# Altium footprint library WR-TBL_Spring Clamp_7.50mm.PcbLib: 17 footprints (part 1 of 2)
Each footprint in its own frame and in the unit in brackets; x right, y up, seen from the top. Pads: shape width x height; smd on the part's side, far side on the other; paste and mask are expansions set on the pad; w line width, h text height; cw(c..) or ccw(c..) is an arc to the next point about the centre after c.
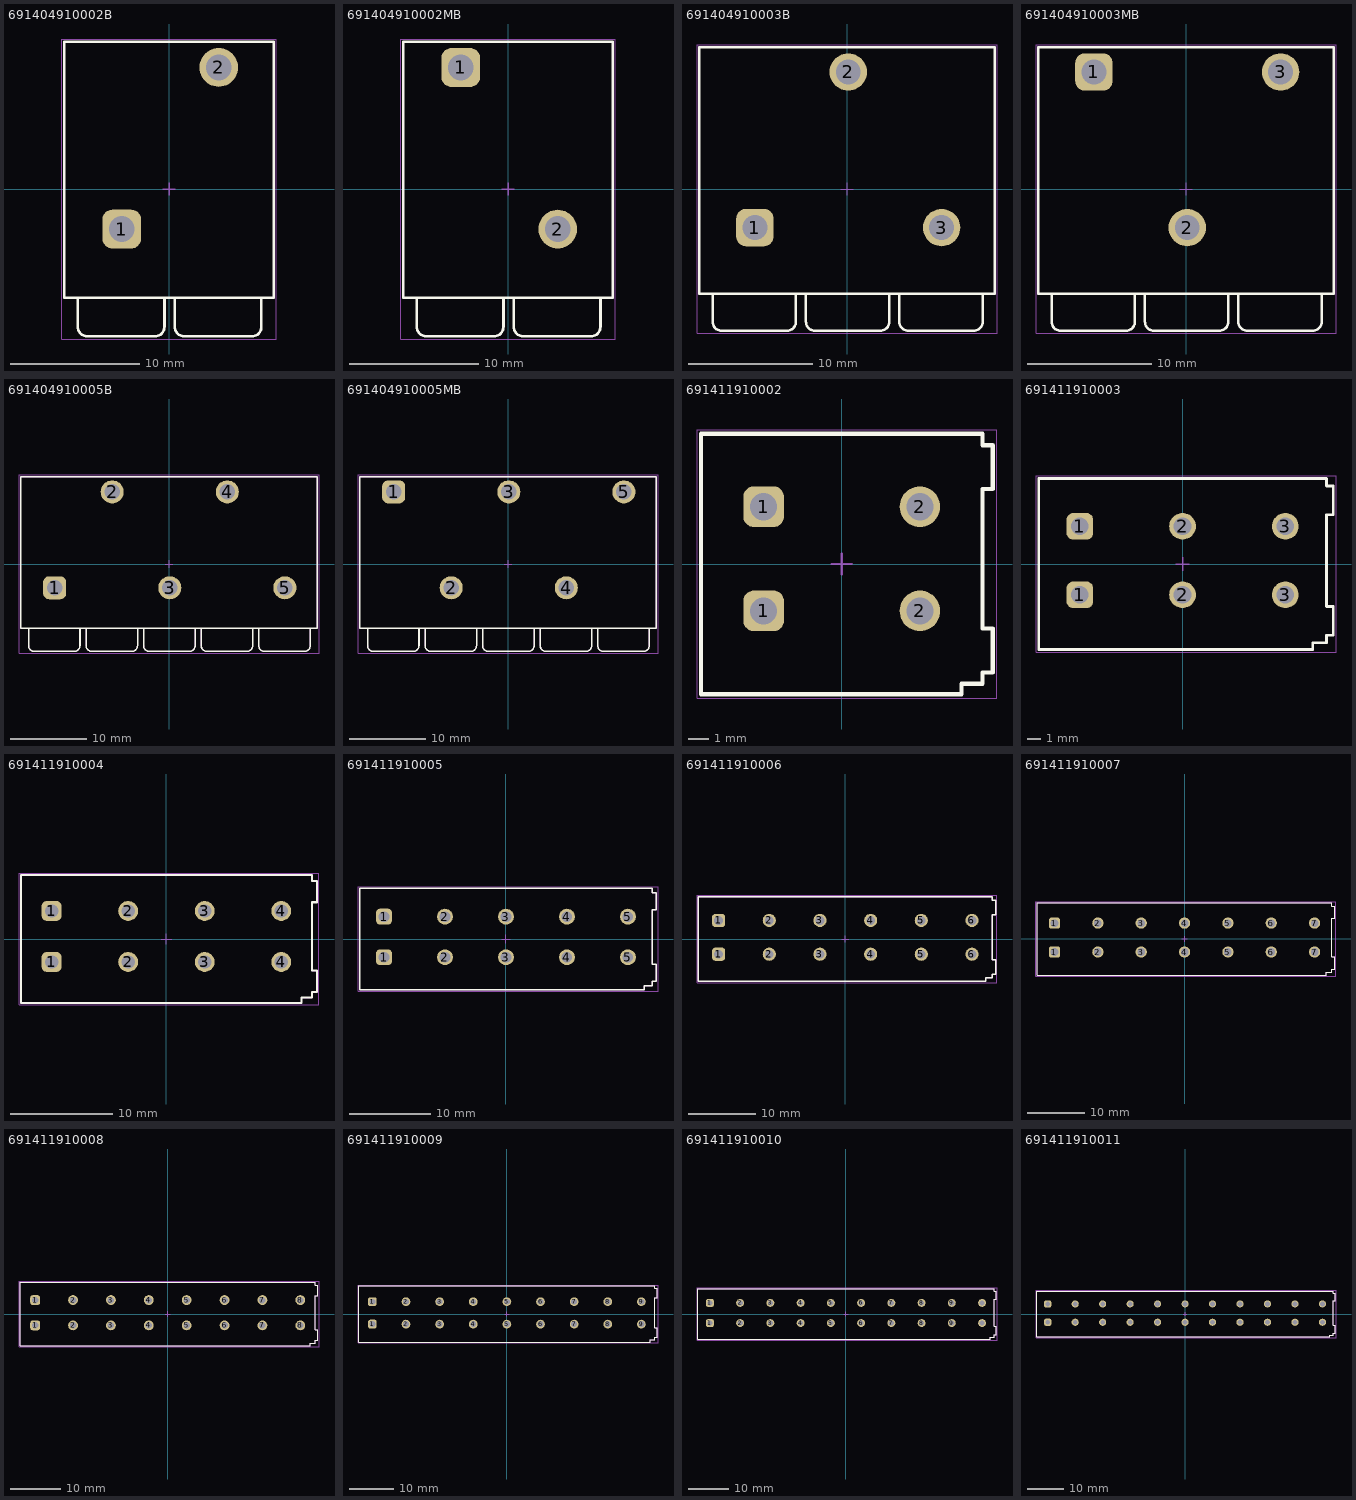
[diagram p0: the footprints below, top view; thin cyan lines are the x and y axes]

## 691404910002B [mm] "7.50 mm Screwless Clamp Power Connector, 2p"
height 24.1
pads (2):
  rrect50% 3x3 hole 2: 1(-3.65,-3.1)
  round 3 hole 2: 2(3.85,9.4)
Top Overlay:
  lines w0.2: -7.05,-8.4 -7.05,-10.65 ccw(c-6.3,-10.65) -6.3,-11.4 -1.05,-11.4 ; -1.1,-11.4 ccw(c-1.1,-10.65) -0.35,-10.65 -0.35,-8.4 ; 0.45,-8.4 0.45,-10.65 ccw(c1.2,-10.65) 1.2,-11.4 6.45,-11.4 ; 6.4,-11.4 ccw(c6.4,-10.65) 7.15,-10.65 7.15,-8.4 ; -8.1,-8.4 -8.1,11.4 8.1,11.4 8.1,-8.4 -8.1,-8.4
Top Assembly:
  lines w0.1: -7.05,-8.4 -7.05,-10.65 ccw(c-6.3,-10.65) -6.3,-11.4 -1.05,-11.4 ; -1.1,-11.4 ccw(c-1.1,-10.65) -0.35,-10.65 -0.35,-8.4 ; 0.45,-8.4 0.45,-10.65 ccw(c1.2,-10.65) 1.2,-11.4 6.45,-11.4 ; 6.4,-11.4 ccw(c6.4,-10.65) 7.15,-10.65 7.15,-8.4 ; -8.1,-8.4 8.1,-8.4 8.1,11.4 -8.1,11.4 -8.1,-8.4
Top Designator:
  text ".Designator" at -3.647,-0.357 h1
Top 3D Body:
  lines w0.1: -7.05,-8.4 -7.05,-10.65 ccw(c-6.3,-10.65) -6.3,-11.4 -1.05,-11.4 ; -1.1,-11.4 ccw(c-1.1,-10.65) -0.35,-10.65 -0.35,-8.4 ; 0.45,-8.4 0.45,-10.65 ccw(c1.2,-10.65) 1.2,-11.4 6.45,-11.4 ; 6.4,-11.4 ccw(c6.4,-10.65) 7.15,-10.65 7.15,-8.4 ; -8.1,-8.4 -8.1,11.4 8.1,11.4 8.1,-8.4 -8.1,-8.4
Top Courtyard:
  lines w0.05: -8.3,-11.6 -8.3,11.6 8.3,11.6 8.3,-11.6 -8.3,-11.6
Top Component Center:
  lines w0.1: -0.5,0 0.5,0 ; 0,-0.5 0,0.5
3D body "691404910002B.stp": height 24.16, standoff -3.54, extent -8.1,-11.395 8.1,11.4

## 691404910002MB [mm] "7.50 mm Screwless Clamp Power Connector, 2p"
height 24.1
pads (2):
  rrect50% 3x3 hole 2: 1(-3.65,9.4)
  round 3 hole 2: 2(3.85,-3.1)
Top Overlay:
  lines w0.2: -7.05,-8.4 -7.05,-10.65 ccw(c-6.3,-10.65) -6.3,-11.4 -1.05,-11.4 ; -1.1,-11.4 ccw(c-1.1,-10.65) -0.35,-10.65 -0.35,-8.4 ; 0.45,-8.4 0.45,-10.65 ccw(c1.2,-10.65) 1.2,-11.4 6.45,-11.4 ; 6.4,-11.4 ccw(c6.4,-10.65) 7.15,-10.65 7.15,-8.4 ; -8.1,-8.4 8.1,-8.4 8.1,11.4 -8.1,11.4 -8.1,-8.4
Top Assembly:
  lines w0.1: -7.05,-8.4 -7.05,-10.65 ccw(c-6.3,-10.65) -6.3,-11.4 -1.05,-11.4 ; -1.1,-11.4 ccw(c-1.1,-10.65) -0.35,-10.65 -0.35,-8.4 ; 0.45,-8.4 0.45,-10.65 ccw(c1.2,-10.65) 1.2,-11.4 6.45,-11.4 ; 6.4,-11.4 ccw(c6.4,-10.65) 7.15,-10.65 7.15,-8.4 ; -8.1,-8.4 -8.1,11.4 8.1,11.4 8.1,-8.4 -8.1,-8.4
Top Designator:
  text ".Designator" at -3.647,-0.357 h1
Top 3D Body:
  lines w0.1: -7.05,-8.4 -7.05,-10.65 ccw(c-6.3,-10.65) -6.3,-11.4 -1.05,-11.4 ; -1.1,-11.4 ccw(c-1.1,-10.65) -0.35,-10.65 -0.35,-8.4 ; 0.45,-8.4 0.45,-10.65 ccw(c1.2,-10.65) 1.2,-11.4 6.45,-11.4 ; 6.4,-11.4 ccw(c6.4,-10.65) 7.15,-10.65 7.15,-8.4 ; -8.1,-8.4 8.1,-8.4 8.1,11.4 -8.1,11.4 -8.1,-8.4
Top Courtyard:
  lines w0.05: -8.3,-11.6 8.3,-11.6 8.3,11.6 -8.3,11.6 -8.3,-11.6
Top Component Center:
  lines w0.1: -0.5,0 0.5,0 ; 0,-0.5 0,0.5
3D body "691404910002MB.stp": height 24.16, standoff -3.54, extent -8.1,-11.396 8.1,11.4

## 691404910003B [mm] "7.50 mm Screwless Clamp Power Connector, 3p"
height 24.1
pads (3):
  rrect50% 3x3 hole 2: 1(-7.4,-3.1)
  round 3 hole 2: 2(0.1,9.4) 3(7.6,-3.1)
Top Overlay:
  lines w0.2: -10.8,-8.4 -10.8,-10.65 ccw(c-10.05,-10.65) -10.05,-11.4 -4.8,-11.4 ; -4.85,-11.4 ccw(c-4.85,-10.65) -4.1,-10.65 -4.1,-8.4 ; -3.3,-8.4 -3.3,-10.65 ccw(c-2.55,-10.65) -2.55,-11.4 2.7,-11.4 ; 2.65,-11.4 ccw(c2.65,-10.65) 3.4,-10.65 3.4,-8.4 ; 4.2,-8.4 4.2,-10.65 ccw(c4.95,-10.65) 4.95,-11.4 10.2,-11.4 ; 10.15,-11.4 ccw(c10.15,-10.65) 10.9,-10.65 10.9,-8.4 ; -11.85,-8.4 11.85,-8.4 11.85,11.4 -11.85,11.4 -11.85,-8.4
Top Assembly:
  lines w0.1: -10.8,-8.4 -10.8,-10.65 ccw(c-10.05,-10.65) -10.05,-11.4 -4.8,-11.4 ; -4.85,-11.4 ccw(c-4.85,-10.65) -4.1,-10.65 -4.1,-8.4 ; -3.3,-8.4 -3.3,-10.65 ccw(c-2.55,-10.65) -2.55,-11.4 2.7,-11.4 ; 2.65,-11.4 ccw(c2.65,-10.65) 3.4,-10.65 3.4,-8.4 ; 4.2,-8.4 4.2,-10.65 ccw(c4.95,-10.65) 4.95,-11.4 10.2,-11.4 ; 10.15,-11.4 ccw(c10.15,-10.65) 10.9,-10.65 10.9,-8.4 ; -11.85,-8.4 -11.85,11.4 11.85,11.4 11.85,-8.4 -11.85,-8.4
Top Designator:
  text ".Designator" at -3.647,-0.357 h1
Top 3D Body:
  lines w0.1: -10.8,-8.4 -10.8,-10.65 ccw(c-10.05,-10.65) -10.05,-11.4 -4.8,-11.4 ; -4.85,-11.4 ccw(c-4.85,-10.65) -4.1,-10.65 -4.1,-8.4 ; -3.3,-8.4 -3.3,-10.65 ccw(c-2.55,-10.65) -2.55,-11.4 2.7,-11.4 ; 2.65,-11.4 ccw(c2.65,-10.65) 3.4,-10.65 3.4,-8.4 ; 4.2,-8.4 4.2,-10.65 ccw(c4.95,-10.65) 4.95,-11.4 10.2,-11.4 ; 10.15,-11.4 ccw(c10.15,-10.65) 10.9,-10.65 10.9,-8.4 ; -11.85,-8.4 11.85,-8.4 11.85,11.4 -11.85,11.4 -11.85,-8.4
Top Courtyard:
  lines w0.05: -12.05,-11.6 12.05,-11.6 12.05,11.6 -12.05,11.6 -12.05,-11.6
Top Component Center:
  lines w0.1: -0.5,0 0.5,0 ; 0,-0.5 0,0.5
3D body "691404910003B.stp": height 24.16, standoff -3.54, extent -11.85,-11.395 11.85,11.4

## 691404910003MB [mm] "7.50 mm Screwless Clamp Power Connector, 3p"
height 24.1
pads (3):
  rrect50% 3x3 hole 2: 1(-7.4,9.4)
  round 3 hole 2: 2(0.1,-3.1) 3(7.6,9.4)
Top Overlay:
  lines w0.2: -10.8,-8.4 -10.8,-10.65 ccw(c-10.05,-10.65) -10.05,-11.4 -4.8,-11.4 ; -4.85,-11.4 ccw(c-4.85,-10.65) -4.1,-10.65 -4.1,-8.4 ; -3.3,-8.4 -3.3,-10.65 ccw(c-2.55,-10.65) -2.55,-11.4 2.7,-11.4 ; 2.65,-11.4 ccw(c2.65,-10.65) 3.4,-10.65 3.4,-8.4 ; 4.2,-8.4 4.2,-10.65 ccw(c4.95,-10.65) 4.95,-11.4 10.2,-11.4 ; 10.15,-11.4 ccw(c10.15,-10.65) 10.9,-10.65 10.9,-8.4 ; -11.85,-8.4 -11.85,11.4 11.85,11.4 11.85,-8.4 -11.85,-8.4
Top Assembly:
  lines w0.1: -10.8,-8.4 -10.8,-10.65 ccw(c-10.05,-10.65) -10.05,-11.4 -4.8,-11.4 ; -4.85,-11.4 ccw(c-4.85,-10.65) -4.1,-10.65 -4.1,-8.4 ; -3.3,-8.4 -3.3,-10.65 ccw(c-2.55,-10.65) -2.55,-11.4 2.7,-11.4 ; 2.65,-11.4 ccw(c2.65,-10.65) 3.4,-10.65 3.4,-8.4 ; 4.2,-8.4 4.2,-10.65 ccw(c4.95,-10.65) 4.95,-11.4 10.2,-11.4 ; 10.15,-11.4 ccw(c10.15,-10.65) 10.9,-10.65 10.9,-8.4 ; -11.85,-8.4 11.85,-8.4 11.85,11.4 -11.85,11.4 -11.85,-8.4
Top Designator:
  text ".Designator" at -3.647,-0.357 h1
Top 3D Body:
  lines w0.1: -10.8,-8.4 -10.8,-10.65 ccw(c-10.05,-10.65) -10.05,-11.4 -4.8,-11.4 ; -4.85,-11.4 ccw(c-4.85,-10.65) -4.1,-10.65 -4.1,-8.4 ; -3.3,-8.4 -3.3,-10.65 ccw(c-2.55,-10.65) -2.55,-11.4 2.7,-11.4 ; 2.65,-11.4 ccw(c2.65,-10.65) 3.4,-10.65 3.4,-8.4 ; 4.2,-8.4 4.2,-10.65 ccw(c4.95,-10.65) 4.95,-11.4 10.2,-11.4 ; 10.15,-11.4 ccw(c10.15,-10.65) 10.9,-10.65 10.9,-8.4 ; -11.85,-8.4 -11.85,11.4 11.85,11.4 11.85,-8.4 -11.85,-8.4
Top Courtyard:
  lines w0.05: -12.05,-11.6 -12.05,11.6 12.05,11.6 12.05,-11.6 -12.05,-11.6
Top Component Center:
  lines w0.1: -0.5,0 0.5,0 ; 0,-0.5 0,0.5
3D body "691404910003MB.stp": height 24.16, standoff -3.54, extent -11.85,-11.396 11.85,11.4

## 691404910005B [mm] "7.50 mm Screwless Clamp Power Connector, 5p"
height 24.1
pads (5):
  rrect50% 3x3 hole 2: 1(-14.9,-3.1)
  round 3 hole 2: 2(-7.4,9.4) 3(0.1,-3.1) 4(7.6,9.4) 5(15.1,-3.1)
Top Overlay:
  lines w0.2: -18.3,-8.4 -18.3,-10.65 ccw(c-17.55,-10.65) -17.55,-11.4 -12.3,-11.4 ; -12.35,-11.4 ccw(c-12.35,-10.65) -11.6,-10.65 -11.6,-8.4 ; -10.8,-8.4 -10.8,-10.65 ccw(c-10.05,-10.65) -10.05,-11.4 -4.8,-11.4 ; -4.85,-11.4 ccw(c-4.85,-10.65) -4.1,-10.65 -4.1,-8.4 ; -3.3,-8.4 -3.3,-10.65 ccw(c-2.55,-10.65) -2.55,-11.4 2.7,-11.4 ; 2.65,-11.4 ccw(c2.65,-10.65) 3.4,-10.65 3.4,-8.4 ; 4.2,-8.4 4.2,-10.65 ccw(c4.95,-10.65) 4.95,-11.4 10.2,-11.4 ; 10.15,-11.4 ccw(c10.15,-10.65) 10.9,-10.65 10.9,-8.4 ; 11.7,-8.4 11.7,-10.65 ccw(c12.45,-10.65) 12.45,-11.4 17.7,-11.4 ; 17.65,-11.4 ccw(c17.65,-10.65) 18.4,-10.65 18.4,-8.4 ; -19.35,-8.4 -19.35,11.4 19.35,11.4 19.35,-8.4 -19.35,-8.4
Top Assembly:
  lines w0.1: -18.3,-8.4 -18.3,-10.65 ccw(c-17.55,-10.65) -17.55,-11.4 -12.3,-11.4 ; -12.35,-11.4 ccw(c-12.35,-10.65) -11.6,-10.65 -11.6,-8.4 ; -10.8,-8.4 -10.8,-10.65 ccw(c-10.05,-10.65) -10.05,-11.4 -4.8,-11.4 ; -4.85,-11.4 ccw(c-4.85,-10.65) -4.1,-10.65 -4.1,-8.4 ; -3.3,-8.4 -3.3,-10.65 ccw(c-2.55,-10.65) -2.55,-11.4 2.7,-11.4 ; 2.65,-11.4 ccw(c2.65,-10.65) 3.4,-10.65 3.4,-8.4 ; 4.2,-8.4 4.2,-10.65 ccw(c4.95,-10.65) 4.95,-11.4 10.2,-11.4 ; 10.15,-11.4 ccw(c10.15,-10.65) 10.9,-10.65 10.9,-8.4 ; 11.7,-8.4 11.7,-10.65 ccw(c12.45,-10.65) 12.45,-11.4 17.7,-11.4 ; 17.65,-11.4 ccw(c17.65,-10.65) 18.4,-10.65 18.4,-8.4 ; -19.35,-8.4 19.35,-8.4 19.35,11.4 -19.35,11.4 -19.35,-8.4
Top Designator:
  text ".Designator" at -3.647,-0.357 h1
Top 3D Body:
  lines w0.1: -18.3,-8.4 -18.3,-10.65 ccw(c-17.55,-10.65) -17.55,-11.4 -12.3,-11.4 ; -12.35,-11.4 ccw(c-12.35,-10.65) -11.6,-10.65 -11.6,-8.4 ; -10.8,-8.4 -10.8,-10.65 ccw(c-10.05,-10.65) -10.05,-11.4 -4.8,-11.4 ; -4.85,-11.4 ccw(c-4.85,-10.65) -4.1,-10.65 -4.1,-8.4 ; -3.3,-8.4 -3.3,-10.65 ccw(c-2.55,-10.65) -2.55,-11.4 2.7,-11.4 ; 2.65,-11.4 ccw(c2.65,-10.65) 3.4,-10.65 3.4,-8.4 ; 4.2,-8.4 4.2,-10.65 ccw(c4.95,-10.65) 4.95,-11.4 10.2,-11.4 ; 10.15,-11.4 ccw(c10.15,-10.65) 10.9,-10.65 10.9,-8.4 ; 11.7,-8.4 11.7,-10.65 ccw(c12.45,-10.65) 12.45,-11.4 17.7,-11.4 ; 17.65,-11.4 ccw(c17.65,-10.65) 18.4,-10.65 18.4,-8.4 ; -19.35,-8.4 -19.35,11.4 19.35,11.4 19.35,-8.4 -19.35,-8.4
Top Courtyard:
  lines w0.05: -19.55,-11.6 -19.55,11.6 19.55,11.6 19.55,-11.6 -19.55,-11.6
Top Component Center:
  lines w0.1: -0.5,0 0.5,0 ; 0,-0.5 0,0.5
3D body "691404910005B.stp": height 24.16, standoff -3.54, extent -19.35,-11.395 19.35,11.4

## 691404910005MB [mm] "7.50 mm Screwless Clamp Power Connector, 5p"
height 24.1
pads (5):
  rrect50% 3x3 hole 2: 1(-14.9,9.4)
  round 3 hole 2: 2(-7.4,-3.1) 3(0.1,9.4) 4(7.6,-3.1) 5(15.1,9.4)
Top Overlay:
  lines w0.2: -18.3,-8.4 -18.3,-10.65 ccw(c-17.55,-10.65) -17.55,-11.4 -12.3,-11.4 ; -12.35,-11.4 ccw(c-12.35,-10.65) -11.6,-10.65 -11.6,-8.4 ; -10.8,-8.4 -10.8,-10.65 ccw(c-10.05,-10.65) -10.05,-11.4 -4.8,-11.4 ; -4.85,-11.4 ccw(c-4.85,-10.65) -4.1,-10.65 -4.1,-8.4 ; -3.3,-8.4 -3.3,-10.65 ccw(c-2.55,-10.65) -2.55,-11.4 2.7,-11.4 ; 2.65,-11.4 ccw(c2.65,-10.65) 3.4,-10.65 3.4,-8.4 ; 4.2,-8.4 4.2,-10.65 ccw(c4.95,-10.65) 4.95,-11.4 10.2,-11.4 ; 10.15,-11.4 ccw(c10.15,-10.65) 10.9,-10.65 10.9,-8.4 ; 11.7,-8.4 11.7,-10.65 ccw(c12.45,-10.65) 12.45,-11.4 17.7,-11.4 ; 17.65,-11.4 ccw(c17.65,-10.65) 18.4,-10.65 18.4,-8.4 ; -19.35,-8.4 19.35,-8.4 19.35,11.4 -19.35,11.4 -19.35,-8.4
Top Assembly:
  lines w0.1: -18.3,-8.4 -18.3,-10.65 ccw(c-17.55,-10.65) -17.55,-11.4 -12.3,-11.4 ; -12.35,-11.4 ccw(c-12.35,-10.65) -11.6,-10.65 -11.6,-8.4 ; -10.8,-8.4 -10.8,-10.65 ccw(c-10.05,-10.65) -10.05,-11.4 -4.8,-11.4 ; -4.85,-11.4 ccw(c-4.85,-10.65) -4.1,-10.65 -4.1,-8.4 ; -3.3,-8.4 -3.3,-10.65 ccw(c-2.55,-10.65) -2.55,-11.4 2.7,-11.4 ; 2.65,-11.4 ccw(c2.65,-10.65) 3.4,-10.65 3.4,-8.4 ; 4.2,-8.4 4.2,-10.65 ccw(c4.95,-10.65) 4.95,-11.4 10.2,-11.4 ; 10.15,-11.4 ccw(c10.15,-10.65) 10.9,-10.65 10.9,-8.4 ; 11.7,-8.4 11.7,-10.65 ccw(c12.45,-10.65) 12.45,-11.4 17.7,-11.4 ; 17.65,-11.4 ccw(c17.65,-10.65) 18.4,-10.65 18.4,-8.4 ; -19.35,-8.4 -19.35,11.4 19.35,11.4 19.35,-8.4 -19.35,-8.4
Top Designator:
  text ".Designator" at -3.647,-0.357 h1
Top 3D Body:
  lines w0.1: -18.3,-8.4 -18.3,-10.65 ccw(c-17.55,-10.65) -17.55,-11.4 -12.3,-11.4 ; -12.35,-11.4 ccw(c-12.35,-10.65) -11.6,-10.65 -11.6,-8.4 ; -10.8,-8.4 -10.8,-10.65 ccw(c-10.05,-10.65) -10.05,-11.4 -4.8,-11.4 ; -4.85,-11.4 ccw(c-4.85,-10.65) -4.1,-10.65 -4.1,-8.4 ; -3.3,-8.4 -3.3,-10.65 ccw(c-2.55,-10.65) -2.55,-11.4 2.7,-11.4 ; 2.65,-11.4 ccw(c2.65,-10.65) 3.4,-10.65 3.4,-8.4 ; 4.2,-8.4 4.2,-10.65 ccw(c4.95,-10.65) 4.95,-11.4 10.2,-11.4 ; 10.15,-11.4 ccw(c10.15,-10.65) 10.9,-10.65 10.9,-8.4 ; 11.7,-8.4 11.7,-10.65 ccw(c12.45,-10.65) 12.45,-11.4 17.7,-11.4 ; 17.65,-11.4 ccw(c17.65,-10.65) 18.4,-10.65 18.4,-8.4 ; -19.35,-8.4 19.35,-8.4 19.35,11.4 -19.35,11.4 -19.35,-8.4
Top Courtyard:
  lines w0.05: -19.55,-11.6 19.55,-11.6 19.55,11.6 -19.55,11.6 -19.55,-11.6
Top Component Center:
  lines w0.1: -0.5,0 0.5,0 ; 0,-0.5 0,0.5
3D body "691404910005MB.stp": height 24.16, standoff -3.54, extent -19.35,-11.396 19.35,11.4

## 691411910002 [mm] "7.50 mm Screwless Horizontal Entry, 2p"
height 13.9
pads (4):
  rrect50% 1.95x1.95 hole 1.3: 1(-3.75,-2.25) 1(-3.75,2.75)
  round 1.95 hole 1.3: 2(3.75,-2.25) 2(3.75,2.75)
Top Overlay:
  lines w0.2: -6.75,-6.25 5.75,-6.25 5.75,-5.75 6.75,-5.75 6.75,-5.2 7.25,-5.2 7.25,-3.1 6.75,-3.1 6.75,3.6 7.25,3.6 7.25,5.7 6.75,5.7 6.75,6.25 -6.75,6.25 -6.75,-6.25
Top Assembly:
  lines w0.1: -6.75,-6.25 -6.75,6.25 6.75,6.25 6.75,5.7 7.25,5.7 7.25,3.6 6.75,3.6 6.75,-3.1 7.25,-3.1 7.25,-5.2 6.75,-5.2 6.75,-5.75 5.75,-5.75 5.75,-6.25 -6.75,-6.25
Top Designator:
  text ".Designator" at -3.647,-0.357 h1
Top 3D Body:
  lines w0.1: -6.75,-6.25 5.75,-6.25 5.75,-5.75 6.75,-5.75 6.75,-5.2 7.25,-5.2 7.25,-3.1 6.75,-3.1 6.75,3.6 7.25,3.6 7.25,5.7 6.75,5.7 6.75,6.25 -6.75,6.25 -6.75,-6.25
Top Courtyard:
  lines w0.05: -6.95,-6.45 7.45,-6.45 7.45,6.45 -6.95,6.45 -6.95,-6.45
Top Component Center:
  lines w0.1: -0.5,0 0.5,0 ; 0,-0.5 0,0.5
3D body "691411910002.stp": height 13.95, standoff -3.55, extent -6.75,-6.25 7.25,6.25

## 691411910003 [mm] "7.50 mm Screwless Horizontal Entry, 3p"
height 13.9
pads (6):
  rrect50% 1.95x1.95 hole 1.3: 1(-7.5,-2.25) 1(-7.5,2.75)
  round 1.95 hole 1.3: 2(0,-2.25) 2(0,2.75) 3(7.5,-2.25) 3(7.5,2.75)
Top Overlay:
  lines w0.2: -10.5,-6.25 -10.5,6.25 10.5,6.25 10.5,5.7 11,5.7 11,3.6 10.5,3.6 10.5,-3.1 11,-3.1 11,-5.2 10.5,-5.2 10.5,-5.75 9.5,-5.75 9.5,-6.25 -10.5,-6.25
Top Assembly:
  lines w0.1: -10.5,-6.25 9.5,-6.25 9.5,-5.75 10.5,-5.75 10.5,-5.2 11,-5.2 11,-3.1 10.5,-3.1 10.5,3.6 11,3.6 11,5.7 10.5,5.7 10.5,6.25 -10.5,6.25 -10.5,-6.25
Top Designator:
  text ".Designator" at -3.647,-0.357 h1
Top 3D Body:
  lines w0.1: -10.5,-6.25 -10.5,6.25 10.5,6.25 10.5,5.7 11,5.7 11,3.6 10.5,3.6 10.5,-3.1 11,-3.1 11,-5.2 10.5,-5.2 10.5,-5.75 9.5,-5.75 9.5,-6.25 -10.5,-6.25
Top Courtyard:
  lines w0.05: -10.7,-6.45 -10.7,6.45 11.2,6.45 11.2,-6.45 -10.7,-6.45
Top Component Center:
  lines w0.1: -0.5,0 0.5,0 ; 0,-0.5 0,0.5
3D body "691411910003.stp": height 13.95, standoff -3.55, extent -10.5,-6.25 11,6.25

## 691411910004 [mm] "7.50 mm Screwless Horizontal Entry, 4p"
height 13.9
pads (8):
  rrect50% 1.95x1.95 hole 1.3: 1(-11.25,-2.25) 1(-11.25,2.75)
  round 1.95 hole 1.3: 2(-3.75,-2.25) 2(-3.75,2.75) 3(3.75,-2.25) 3(3.75,2.75) 4(11.25,-2.25) 4(11.25,2.75)
Top Overlay:
  lines w0.2: -14.25,-6.25 13.25,-6.25 13.25,-5.75 14.25,-5.75 14.25,-5.2 14.75,-5.2 14.75,-3.1 14.25,-3.1 14.25,3.6 14.75,3.6 14.75,5.7 14.25,5.7 14.25,6.25 -14.25,6.25 -14.25,-6.25
Top Assembly:
  lines w0.1: -14.25,-6.25 -14.25,6.25 14.25,6.25 14.25,5.7 14.75,5.7 14.75,3.6 14.25,3.6 14.25,-3.1 14.75,-3.1 14.75,-5.2 14.25,-5.2 14.25,-5.75 13.25,-5.75 13.25,-6.25 -14.25,-6.25
Top Designator:
  text ".Designator" at -3.647,-0.357 h1
Top 3D Body:
  lines w0.1: -14.25,-6.25 13.25,-6.25 13.25,-5.75 14.25,-5.75 14.25,-5.2 14.75,-5.2 14.75,-3.1 14.25,-3.1 14.25,3.6 14.75,3.6 14.75,5.7 14.25,5.7 14.25,6.25 -14.25,6.25 -14.25,-6.25
Top Courtyard:
  lines w0.05: -14.45,-6.45 14.95,-6.45 14.95,6.45 -14.45,6.45 -14.45,-6.45
Top Component Center:
  lines w0.1: -0.5,0 0.5,0 ; 0,-0.5 0,0.5
3D body "691411910004.stp": height 13.95, standoff -3.55, extent -14.25,-6.25 14.75,6.25

## 691411910005 [mm] "7.50 mm Screwless Horizontal Entry, 5p"
height 13.9
pads (10):
  rrect50% 1.95x1.95 hole 1.3: 1(-15,-2.25) 1(-15,2.75)
  round 1.95 hole 1.3: 2(-7.5,-2.25) 2(-7.5,2.75) 3(0,-2.25) 3(0,2.75) 4(7.5,-2.25) 4(7.5,2.75) 5(15,-2.25) 5(15,2.75)
Top Overlay:
  lines w0.2: -18,-6.25 -18,6.25 18,6.25 18,5.7 18.5,5.7 18.5,3.6 18,3.6 18,-3.1 18.5,-3.1 18.5,-5.2 18,-5.2 18,-5.75 17,-5.75 17,-6.25 -18,-6.25
Top Assembly:
  lines w0.1: -18,-6.25 17,-6.25 17,-5.75 18,-5.75 18,-5.2 18.5,-5.2 18.5,-3.1 18,-3.1 18,3.6 18.5,3.6 18.5,5.7 18,5.7 18,6.25 -18,6.25 -18,-6.25
Top Designator:
  text ".Designator" at -3.647,-0.357 h1
Top 3D Body:
  lines w0.1: -18,-6.25 -18,6.25 18,6.25 18,5.7 18.5,5.7 18.5,3.6 18,3.6 18,-3.1 18.5,-3.1 18.5,-5.2 18,-5.2 18,-5.75 17,-5.75 17,-6.25 -18,-6.25
Top Courtyard:
  lines w0.05: -18.2,-6.45 -18.2,6.45 18.7,6.45 18.7,-6.45 -18.2,-6.45
Top Component Center:
  lines w0.1: -0.5,0 0.5,0 ; 0,-0.5 0,0.5
3D body "691411910005.stp": height 13.95, standoff -3.55, extent -18,-6.25 18.5,6.25

## 691411910006 [mm] "7.50 mm Screwless Horizontal Entry, 6p"
height 13.9
pads (12):
  rrect50% 1.95x1.95 hole 1.3: 1(-18.75,-2.25) 1(-18.75,2.75)
  round 1.95 hole 1.3: 2(-11.25,-2.25) 2(-11.25,2.75) 3(-3.75,-2.25) 3(-3.75,2.75) 4(3.75,-2.25) 4(3.75,2.75) 5(11.25,-2.25) 5(11.25,2.75) 6(18.75,-2.25) 6(18.75,2.75)
Top Overlay:
  lines w0.2: -21.75,-6.25 -21.75,6.25 21.75,6.25 21.75,5.7 22.25,5.7 22.25,3.6 21.75,3.6 21.75,-3.1 22.25,-3.1 22.25,-5.2 21.75,-5.2 21.75,-5.75 20.75,-5.75 20.75,-6.25 -21.75,-6.25
Top Assembly:
  lines w0.1: -21.75,-6.25 20.75,-6.25 20.75,-5.75 21.75,-5.75 21.75,-5.2 22.25,-5.2 22.25,-3.1 21.75,-3.1 21.75,3.6 22.25,3.6 22.25,5.7 21.75,5.7 21.75,6.25 -21.75,6.25 -21.75,-6.25
Top Designator:
  text ".Designator" at -3.647,-0.357 h1
Top 3D Body:
  lines w0.1: -21.75,-6.25 -21.75,6.25 21.75,6.25 21.75,5.7 22.25,5.7 22.25,3.6 21.75,3.6 21.75,-3.1 22.25,-3.1 22.25,-5.2 21.75,-5.2 21.75,-5.75 20.75,-5.75 20.75,-6.25 -21.75,-6.25
Top Courtyard:
  lines w0.05: -21.95,-6.45 -21.95,6.45 22.45,6.45 22.45,-6.45 -21.95,-6.45
Top Component Center:
  lines w0.1: -0.5,0 0.5,0 ; 0,-0.5 0,0.5
3D body "691411910006.stp": height 13.95, standoff -3.55, extent -21.75,-6.25 22.25,6.25

## 691411910007 [mm] "7.50 mm Screwless Horizontal Entry, 7p"
height 13.9
pads (14):
  rrect50% 1.95x1.95 hole 1.3: 1(-22.5,-2.25) 1(-22.5,2.75)
  round 1.95 hole 1.3: 2(-15,-2.25) 2(-15,2.75) 3(-7.5,-2.25) 3(-7.5,2.75) 4(0,-2.25) 4(0,2.75) 5(7.5,-2.25) 5(7.5,2.75) 6(15,-2.25) 6(15,2.75) 7(22.5,-2.25) 7(22.5,2.75)
Top Overlay:
  lines w0.2: -25.5,-6.25 24.5,-6.25 24.5,-5.75 25.5,-5.75 25.5,-5.2 26,-5.2 26,-3.1 25.5,-3.1 25.5,3.6 26,3.6 26,5.7 25.5,5.7 25.5,6.25 -25.5,6.25 -25.5,-6.25
Top Assembly:
  lines w0.1: -25.5,-6.25 -25.5,6.25 25.5,6.25 25.5,5.7 26,5.7 26,3.6 25.5,3.6 25.5,-3.1 26,-3.1 26,-5.2 25.5,-5.2 25.5,-5.75 24.5,-5.75 24.5,-6.25 -25.5,-6.25
Top Designator:
  text ".Designator" at -3.647,-0.357 h1
Top 3D Body:
  lines w0.1: -25.5,-6.25 24.5,-6.25 24.5,-5.75 25.5,-5.75 25.5,-5.2 26,-5.2 26,-3.1 25.5,-3.1 25.5,3.6 26,3.6 26,5.7 25.5,5.7 25.5,6.25 -25.5,6.25 -25.5,-6.25
Top Courtyard:
  lines w0.05: -25.7,-6.45 26.2,-6.45 26.2,6.45 -25.7,6.45 -25.7,-6.45
Top Component Center:
  lines w0.1: -0.5,0 0.5,0 ; 0,-0.5 0,0.5
3D body "691411910007.stp": height 13.95, standoff -3.55, extent -25.5,-6.25 26,6.25

## 691411910008 [mm] "7.50 mm Screwless Horizontal Entry, 8p"
height 13.9
pads (16):
  rrect50% 1.95x1.95 hole 1.3: 1(-26.25,-2.25) 1(-26.25,2.75)
  round 1.95 hole 1.3: 2(-18.75,-2.25) 2(-18.75,2.75) 3(-11.25,-2.25) 3(-11.25,2.75) 4(-3.75,-2.25) 4(-3.75,2.75) 5(3.75,-2.25) 5(3.75,2.75) 6(11.25,-2.25) 6(11.25,2.75) 7(18.75,-2.25) 7(18.75,2.75) 8(26.25,-2.25) 8(26.25,2.75)
Top Overlay:
  lines w0.2: -29.25,-6.25 28.25,-6.25 28.25,-5.75 29.25,-5.75 29.25,-5.2 29.75,-5.2 29.75,-3.1 29.25,-3.1 29.25,3.6 29.75,3.6 29.75,5.7 29.25,5.7 29.25,6.25 -29.25,6.25 -29.25,-6.25
Top Assembly:
  lines w0.1: -29.25,-6.25 -29.25,6.25 29.25,6.25 29.25,5.7 29.75,5.7 29.75,3.6 29.25,3.6 29.25,-3.1 29.75,-3.1 29.75,-5.2 29.25,-5.2 29.25,-5.75 28.25,-5.75 28.25,-6.25 -29.25,-6.25
Top Designator:
  text ".Designator" at -3.647,-0.357 h1
Top 3D Body:
  lines w0.1: -29.25,-6.25 28.25,-6.25 28.25,-5.75 29.25,-5.75 29.25,-5.2 29.75,-5.2 29.75,-3.1 29.25,-3.1 29.25,3.6 29.75,3.6 29.75,5.7 29.25,5.7 29.25,6.25 -29.25,6.25 -29.25,-6.25
Top Courtyard:
  lines w0.05: -29.45,-6.45 29.95,-6.45 29.95,6.45 -29.45,6.45 -29.45,-6.45
Top Component Center:
  lines w0.1: -0.5,0 0.5,0 ; 0,-0.5 0,0.5
3D body "691411910008.stp": height 13.95, standoff -3.55, extent -29.25,-6.25 29.75,6.25

## 691411910009 [mm] "7.50 mm Screwless Horizontal Entry, 9p"
height 13.9
pads (18):
  rrect50% 1.95x1.95 hole 1.3: 1(-30,-2.25) 1(-30,2.75)
  round 1.95 hole 1.3: 2(-22.5,-2.25) 2(-22.5,2.75) 3(-15,-2.25) 3(-15,2.75) 4(-7.5,-2.25) 4(-7.5,2.75) 5(0,-2.25) 5(0,2.75) 6(7.5,-2.25) 6(7.5,2.75) 7(15,-2.25) 7(15,2.75) 8(22.5,-2.25) 8(22.5,2.75) 9(30,-2.25) 9(30,2.75)
Top Overlay:
  lines w0.2: -33,-6.25 32,-6.25 32,-5.75 33,-5.75 33,-5.2 33.5,-5.2 33.5,-3.1 33,-3.1 33,3.6 33.5,3.6 33.5,5.7 33,5.7 33,6.25 -33,6.25 -33,-6.25
Top Assembly:
  lines w0.1: -33,-6.25 -33,6.25 33,6.25 33,5.7 33.5,5.7 33.5,3.6 33,3.6 33,-3.1 33.5,-3.1 33.5,-5.2 33,-5.2 33,-5.75 32,-5.75 32,-6.25 -33,-6.25
Top Designator:
  text ".Designator" at -3.647,-0.357 h1
Top 3D Body:
  lines w0.1: -33,-6.25 32,-6.25 32,-5.75 33,-5.75 33,-5.2 33.5,-5.2 33.5,-3.1 33,-3.1 33,3.6 33.5,3.6 33.5,5.7 33,5.7 33,6.25 -33,6.25 -33,-6.25
Top Courtyard:
  lines w0.05: -33.2,-6.45 33.7,-6.45 33.7,6.45 -33.2,6.45 -33.2,-6.45
Top Component Center:
  lines w0.1: -0.5,0 0.5,0 ; 0,-0.5 0,0.5
3D body "691411910009.stp": height 13.95, standoff -3.55, extent -33,-6.25 33.5,6.25

## 691411910010 [mm] "7.50 mm Screwless Horizontal Entry, 10p"
height 13.9
pads (20):
  rrect50% 1.95x1.95 hole 1.3: 1(-33.75,-2.25) 1(-33.75,2.75)
  round 1.95 hole 1.3: 2(-26.25,-2.25) 2(-26.25,2.75) 3(-18.75,-2.25) 3(-18.75,2.75) 4(-11.25,-2.25) 4(-11.25,2.75) 5(-3.75,-2.25) 5(-3.75,2.75) 6(3.75,-2.25) 6(3.75,2.75) 7(11.25,-2.25) 7(11.25,2.75) 8(18.75,-2.25) 8(18.75,2.75) 9(26.25,-2.25) 9(26.25,2.75) 10(33.75,-2.25) 10(33.75,2.75)
Top Overlay:
  lines w0.2: -36.75,-6.25 35.75,-6.25 35.75,-5.75 36.75,-5.75 36.75,-5.2 37.25,-5.2 37.25,-3.1 36.75,-3.1 36.75,3.6 37.25,3.6 37.25,5.7 36.75,5.7 36.75,6.25 -36.75,6.25 -36.75,-6.25
Top Assembly:
  lines w0.1: -36.75,-6.25 -36.75,6.25 36.75,6.25 36.75,5.7 37.25,5.7 37.25,3.6 36.75,3.6 36.75,-3.1 37.25,-3.1 37.25,-5.2 36.75,-5.2 36.75,-5.75 35.75,-5.75 35.75,-6.25 -36.75,-6.25
Top Designator:
  text ".Designator" at -3.647,-0.357 h1
Top 3D Body:
  lines w0.1: -36.75,-6.25 35.75,-6.25 35.75,-5.75 36.75,-5.75 36.75,-5.2 37.25,-5.2 37.25,-3.1 36.75,-3.1 36.75,3.6 37.25,3.6 37.25,5.7 36.75,5.7 36.75,6.25 -36.75,6.25 -36.75,-6.25
Top Courtyard:
  lines w0.05: -36.95,-6.45 37.45,-6.45 37.45,6.45 -36.95,6.45 -36.95,-6.45
Top Component Center:
  lines w0.1: -0.5,0 0.5,0 ; 0,-0.5 0,0.5
3D body "691411910010.stp": height 13.95, standoff -3.55, extent -36.75,-6.25 37.25,6.25

## 691411910011 [mm] "7.50 mm Screwless Horizontal Entry, 11p"
height 13.9
pads (22):
  rrect50% 1.95x1.95 hole 1.3: 1(-37.5,-2.25) 1(-37.5,2.75)
  round 1.95 hole 1.3: 2(-30,-2.25) 2(-30,2.75) 3(-22.5,-2.25) 3(-22.5,2.75) 4(-15,-2.25) 4(-15,2.75) 5(-7.5,-2.25) 5(-7.5,2.75) 6(0,-2.25) 6(0,2.75) 7(7.5,-2.25) 7(7.5,2.75) 8(15,-2.25) 8(15,2.75) 9(22.5,-2.25) 9(22.5,2.75) 10(30,-2.25) 10(30,2.75) 11(37.5,-2.25) 11(37.5,2.75)
Top Overlay:
  lines w0.2: -40.5,-6.25 39.5,-6.25 39.5,-5.75 40.5,-5.75 40.5,-5.2 41,-5.2 41,-3.1 40.5,-3.1 40.5,3.6 41,3.6 41,5.7 40.5,5.7 40.5,6.25 -40.5,6.25 -40.5,-6.25
Top Assembly:
  lines w0.1: -40.5,-6.25 -40.5,6.25 40.5,6.25 40.5,5.7 41,5.7 41,3.6 40.5,3.6 40.5,-3.1 41,-3.1 41,-5.2 40.5,-5.2 40.5,-5.75 39.5,-5.75 39.5,-6.25 -40.5,-6.25
Top Designator:
  text ".Designator" at -3.647,-0.357 h1
Top 3D Body:
  lines w0.1: -40.5,-6.25 39.5,-6.25 39.5,-5.75 40.5,-5.75 40.5,-5.2 41,-5.2 41,-3.1 40.5,-3.1 40.5,3.6 41,3.6 41,5.7 40.5,5.7 40.5,6.25 -40.5,6.25 -40.5,-6.25
Top Courtyard:
  lines w0.05: -40.7,-6.45 41.2,-6.45 41.2,6.45 -40.7,6.45 -40.7,-6.45
Top Component Center:
  lines w0.1: -0.5,0 0.5,0 ; 0,-0.5 0,0.5
3D body "691411910011.stp": height 13.95, standoff -3.55, extent -40.5,-6.25 41,6.25